# EAGLE library part IDB05A1_BLE (library IDB05A1_BLE)
IDB05A1_BLE
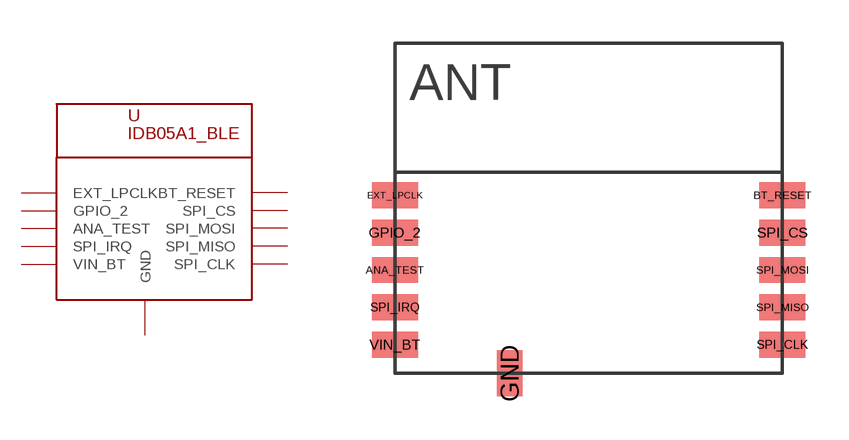
[diagram p0: symbol with the pads of IDB05A1_BLE; footprint IDB05A1_BLE]

Designator prefix -

## IDB05A1_BLE  [IDB05A1_BLE]
ANA_TEST  ANA_TEST
BT_RESET  BT_RESET
EXT_LPCLK  EXT_LPCLK
GND  GND  pwr
GPIO_2  GPIO_2
SPI_CLK  SPI_CLK
SPI_CS  SPI_CS
SPI_IRQ  SPI_IRQ
SPI_MISO  SPI_MISO
SPI_MOSI  SPI_MOSI
VIN_BT  VIN_BT  pwr

## Footprint IDB05A1_BLE (pad centres in mm)
IDB05A1_BLE
smd 1.6 x 0.9: ANA_TEST 0,3.6; BT_RESET 13.5,6.2; EXT_LPCLK 0,6.2; GPIO_2 0,4.9; SPI_CLK 13.5,1; SPI_CS 13.5,4.9; SPI_IRQ 0,2.3; SPI_MISO 13.5,2.3; SPI_MOSI 13.5,3.6; VIN_BT 0,1
smd 0.9 x 1.6: GND 4,0